# Altium footprint library TP4056-42.PcbLib: 1 footprints
Each footprint in its own frame and in the unit in brackets; x right, y up, seen from the top. Pads: shape width x height; smd on the part's side, far side on the other; paste and mask are expansions set on the pad; w line width, h text height; cw(c..) or ccw(c..) is an arc to the next point about the centre after c.
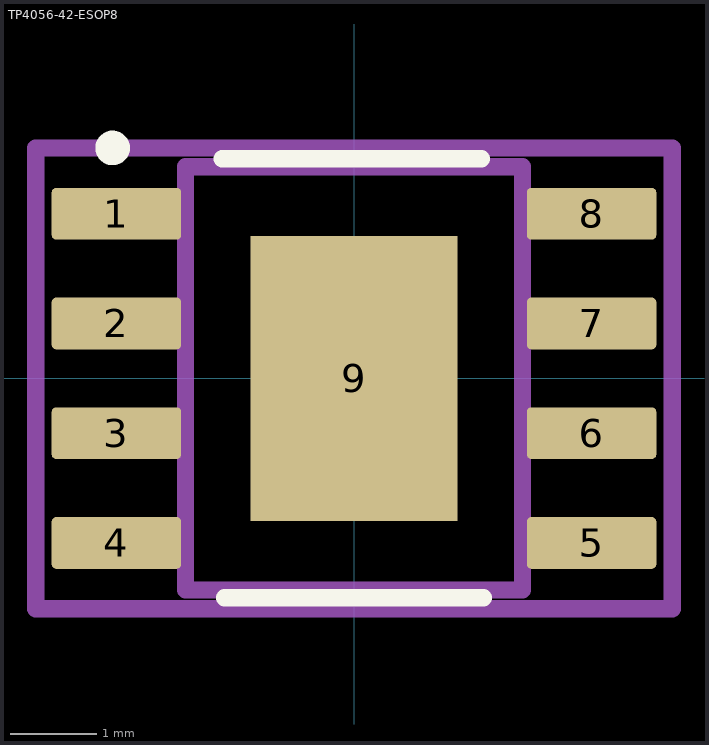
[diagram p0: the footprint, top view; thin cyan lines are the x and y axes]

## TP4056-42-ESOP8 [mm]
pads (9):
  rrect18% 1.5x0.6 smd: 1(-2.75,1.905) 2(-2.75,0.635) 3(-2.75,-0.635) 4(-2.75,-1.905) 5(2.75,-1.905) 6(2.75,-0.635) 7(2.75,0.635) 8(2.75,1.905)
  rect 2.4x3.3 smd: 9(0,0)
Top Overlay:
  circle w0.2: c-2.794,2.667 r0.1
  lines w0.2: -1.524,2.54 1.476,2.54 ; -1.5,-2.54 1.5,-2.54
Top 3D Body:
  lines w0.2: -1.95,-2.45 1.95,-2.45 1.95,2.45 -1.95,2.45 -1.95,-2.45
Top Courtyard:
  lines w0.2: -3.683,-2.667 -3.683,2.667 3.683,2.667 3.683,-2.667 -3.683,-2.667
3D body "TP4056-42-ESOP8.STEP": height 1.75, standoff 0, extent -3,-2.45 3,2.45